# EAGLE library part NHD-C12864GG-RN-GBW (library Pygmy)
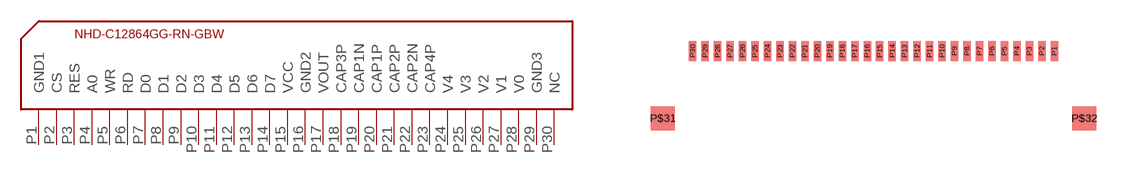
[diagram p24: symbol with the pads of FCI-FFC-0.5MM-30-BOT; footprint FCI-FFC-0.5MM-30-BOT]

Designator prefix -

## NHD-C12864GG-RN-GBW  [FCI-FFC-0.5MM-30-BOT]
P1  GND1
P2  CS
P3  RES
P4  A0
P5  WR
P6  RD
P7  D0
P8  D1
P9  D2
P10  D3
P11  D4
P12  D5
P13  D6
P14  D7
P15  VCC
P16  GND2
P17  VOUT
P18  CAP3P
P19  CAP1N
P20  CAP1P
P21  CAP2P
P22  CAP2N
P23  CAP4P
P24  V4
P25  V3
P26  V2
P27  V1
P28  V0
P29  GND3
P30  NC

## Footprint FCI-FFC-0.5MM-30-BOT (pad centres in mm)
smd 0.3 x 0.8: P1 14.5,0.4; P2 14,0.4; P3 13.5,0.4; P4 13,0.4; P5 12.5,0.4; P6 12,0.4; P7 11.5,0.4; P8 11,0.4; P9 10.5,0.4; P10 10,0.4; P11 9.5,0.4; P12 9,0.4; P13 8.5,0.4; P14 8,0.4; P15 7.5,0.4; P16 7,0.4; P17 6.5,0.4; P18 6,0.4; P19 5.5,0.4; P20 5,0.4; P21 4.5,0.4; P22 4,0.4; P23 3.5,0.4; P24 3,0.4; P25 2.5,0.4; P26 2,0.4; P27 1.5,0.4; P28 1,0.4; P29 0.5,0.4; P30 0,0.4
smd 0.95 x 0.95: P$31 -1.2,-2.3; P$32 15.7,-2.3